# EAGLE library part ESPR_DEVELOPER (library Espr_devloper)
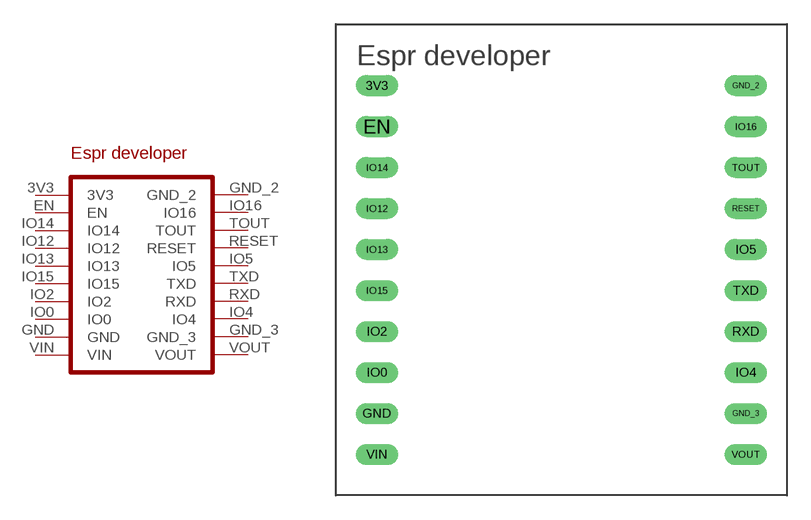
[diagram p0: symbol with the pads of ESPR_DEV; footprint ESPR_DEV]

Designator prefix -

## ESPR_DEVELOPER  [ESPR_DEV]
3V3  3V3
EN  EN
GND  GND
GND_2  GND_2
GND_3  GND_3
IO0  IO0
IO2  IO2
IO4  IO4
IO5  IO5
IO12  IO12
IO13  IO13
IO14  IO14
IO15  IO15
IO16  IO16
RESET  RESET
RXD  RXD
TOUT  TOUT
TXD  TXD
VIN  VIN
VOUT  VOUT

## Footprint ESPR_DEV (pad centres in mm)
drill 0.8 long: 3V3 -15.24,11.43; EN -15.24,8.89; GND -15.24,-8.89; GND_2 7.62,11.43; GND_3 7.62,-8.89; IO0 -15.24,-6.35; IO2 -15.24,-3.81; IO4 7.62,-6.35; IO5 7.62,1.27; IO12 -15.24,3.81; IO13 -15.24,1.27; IO14 -15.24,6.35; IO15 -15.24,-1.27; IO16 7.62,8.89; RESET 7.62,3.81; RXD 7.62,-3.81; TOUT 7.62,6.35; TXD 7.62,-1.27; VIN -15.24,-11.43; VOUT 7.62,-11.43